# Altium footprint library Optoelectronic.PCBLIB: 42 footprints (part 1 of 3)
Each footprint in its own frame and in the unit in brackets; x right, y up, seen from the top. Pads: shape width x height; smd on the part's side, far side on the other; paste and mask are expansions set on the pad; w line width, h text height; cw(c..) or ccw(c..) is an arc to the next point about the centre after c.
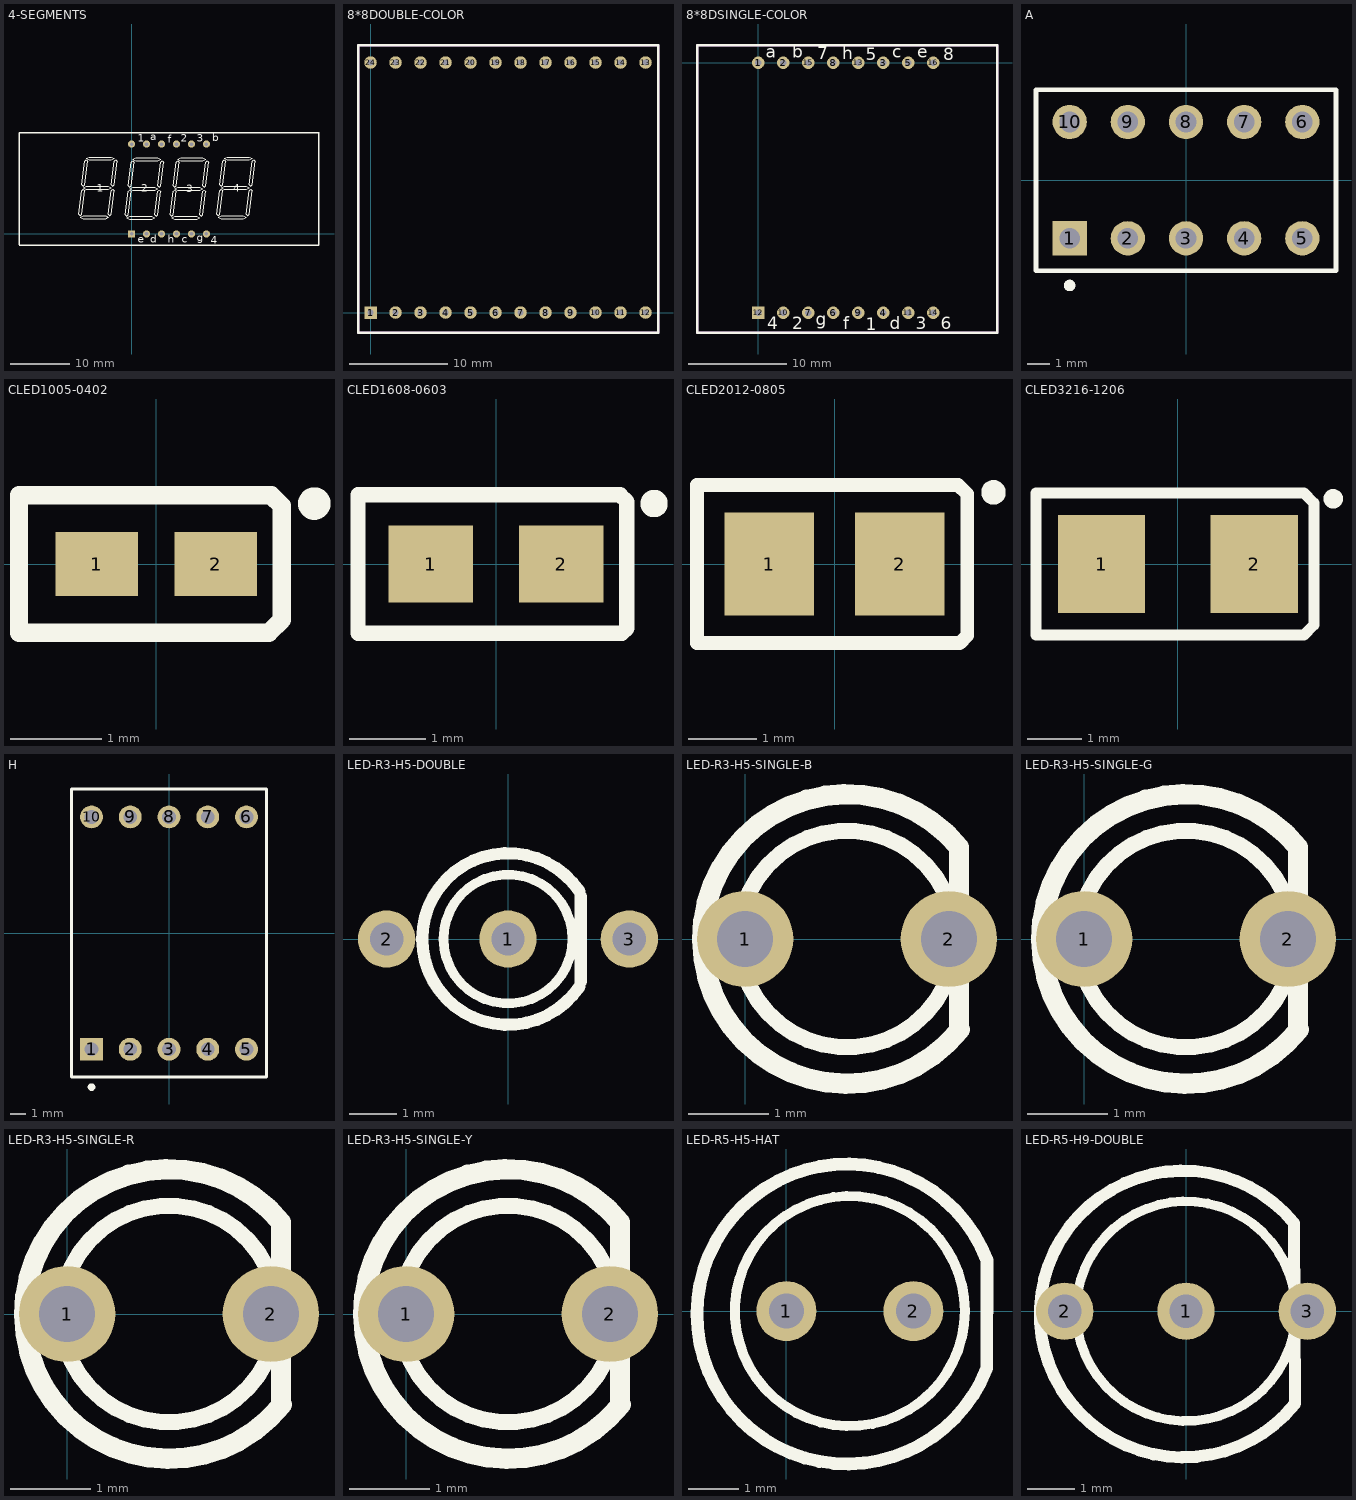
[diagram p0: the footprints below, top view; thin cyan lines are the x and y axes]

## 4-SEGMENTS [mm]
pads (12):
  rect 1.2x1.2 hole 0.6: 1(0,0.005)
  round 1.2 hole 0.6: 2(2.54,0.005) 3(5.08,0.005) 4(7.62,0.005) 5(10.16,0.005) 6(12.7,0.005) 7(12.7,15.245) 8(10.16,15.245) 9(7.62,15.245) 10(5.08,15.245) 11(2.54,15.245) 12(0,15.245)
Top Overlay:
  drawing of 175 lines, arcs and shapes, not listed
  text "e" at 1.016,-1.519 h1.27
  text "d" at 3.175,-1.519 h1.27
  text "h" at 6.096,-1.519 h1.27
  text "c" at 8.509,-1.519 h1.27
  text "g" at 11.049,-1.265 h1.27
  text "4" at 13.462,-1.646 h1.27
  text "1" at 1.016,15.626 h1.27
  text "a" at 3.175,15.88 h1.27
  text "f" at 6.096,15.499 h1.27
  text "2" at 8.382,15.626 h1.27
  text "3" at 11.049,15.626 h1.27
  text "b" at 13.716,15.753 h1.27
  text "1" at -5.868,7.143 h1.27
  text "2" at 1.625,7.117 h1.27
  text "3" at 9.296,7.067 h1.27
  text "4" at 17.221,7.143 h1.27
3D body: height 4.9, standoff 0.5, extent -19.197,-2.027 31.897,17.277
3D body: height 5, standoff 0.5, extent 15.709,12.551 20.463,13.049
3D body: height 5, standoff 0.5, extent 7.335,7.451 12.089,7.949
3D body: height 5, standoff 0.5, extent -0.786,2.479 3.969,2.977
3D body: height 5, standoff 0.5, extent -19.071,-1.9 31.75,17.101
3D body: height 5, standoff 0.5, extent 15.209,7.578 19.963,8.076
3D body: height 5, standoff 0.5, extent 7.084,7.948 8.086,12.425
3D body: height 5, standoff 0.5, extent 7.835,12.424 12.589,12.922
3D body: height 5, standoff 0.5, extent 12.088,7.948 13.09,12.425
3D body: height 5, standoff 0.5, extent -19.051,-1.85 31.77,17.151
3D body: height 5, standoff 0.5, extent 11.588,2.976 12.589,7.452
3D body: height 5, standoff 0.5, extent -0.536,7.948 0.466,12.425
3D body: height 5, standoff 0.5, extent -3.906,3.103 -2.905,7.579
3D body: height 5, standoff 0.5, extent 6.834,2.479 11.589,2.977
3D body: height 5, standoff 0.5, extent -1.036,2.976 -0.034,7.452
3D body: height 5, standoff 0.5, extent -0.285,7.451 4.469,7.949
3D body: height 5, standoff 0.5, extent -8.66,2.606 -3.905,3.104
3D body: height 5, standoff 0.5, extent -8.159,7.578 -3.405,8.076
3D body: height 5, standoff 0.5, extent 3.968,2.976 4.969,7.452
3D body: height 5, standoff 0.5, extent 4.468,7.948 5.47,12.425
3D body: height 5, standoff 0.5, extent -3.406,8.075 -2.404,12.552
3D body: height 5, standoff 0.5, extent -8.41,8.075 -7.408,12.552
3D body: height 5, standoff 0.5, extent -7.659,12.551 -2.905,13.049
3D body: height 5, standoff 0.5, extent 0.215,12.424 4.969,12.922
3D body: height 5, standoff 0.5, extent 19.462,3.103 20.463,7.579
3D body: height 5, standoff 0.5, extent -8.91,3.103 -7.908,7.579
3D body: height 5, standoff 0.5, extent 14.458,3.103 15.46,7.579
3D body: height 5, standoff 0.5, extent 14.708,2.606 19.463,3.104
3D body: height 5, standoff 0.5, extent 19.962,8.075 20.964,12.552
3D body: height 5, standoff 0.5, extent 6.584,2.976 7.586,7.452
3D body: height 5, standoff 0.5, extent 14.958,8.075 15.96,12.552

## 8*8DOUBLE-COLOR [mm]
pads (24):
  rect 1.27x1.27 hole 0.635: 1(0,0)
  round 1.27 hole 0.635: 2(2.54,0) 3(5.08,0) 4(7.62,0) 5(10.16,0) 6(12.7,0) 7(15.24,0) 8(17.78,0) 9(20.32,0) 10(22.86,0) 11(25.4,0) 12(27.94,0) 13(27.94,25.4) 14(25.4,25.4) 15(22.86,25.4) 16(20.32,25.4) 17(17.78,25.4) 18(15.24,25.4) 19(12.7,25.4) 20(10.16,25.4) 21(7.62,25.4) 22(5.08,25.4) 23(2.54,25.4) 24(0,25.4)
Top Overlay:
  lines w0.254: -1.27,-2.057 29.21,-2.057 29.21,27.153 -1.27,27.153 -1.27,-2.057
Mechanical 1:
  lines w0.254: -1.27,-2.057 -1.27,27.153 29.21,27.153 29.21,-2.057 -1.27,-2.057
3D body "8DotArray.STEP": height 1.5, standoff -5.8, extent -1.27,-2.159 29.21,27.051

## 8*8DSINGLE-COLOR [mm]
pads (16):
  round 1.27 hole 0.635: 1(0,0) 2(2.54,0) 3(12.7,0) 4(12.7,-25.4) 5(15.24,0) 6(7.62,-25.4) 7(5.08,-25.4) 8(7.62,0) 9(10.16,-25.4) 10(2.54,-25.4) 11(15.24,-25.4) 13(10.16,0) 14(17.78,-25.4) 15(5.08,0) 16(17.78,0)
  rect 1.27x1.27 hole 0.635: 12(0,-25.4)
Top Overlay:
  lines w0.254: -6.223,-27.432 24.257,-27.432 24.257,1.778 -6.223,1.778 -6.223,-27.432
  text "a" at 0.762,0.508 h1.27
  text "b" at 3.429,0.508 h1.27
  text "c" at 13.589,0.508 h1.27
  text "d" at 13.335,-27.051 h1.27
  text "e" at 16.129,0.508 h1.27
  text "f" at 8.636,-27.051 h1.27
  text "g" at 5.842,-26.67 h1.27
  text "h" at 8.509,0.381 h1.27
  text "8" at 18.796,0.254 h1.27
  text "7" at 5.969,0.381 h1.27
  text "6" at 18.542,-27.051 h1.27
  text "5" at 10.922,0.254 h1.27
  text "4" at 0.889,-27.051 h1.27
  text "3" at 16.002,-27.051 h1.27
  text "2" at 3.429,-27.051 h1.27
  text "1" at 10.922,-27.178 h1.27
Mechanical 1:
  lines w0.254: -6.223,-27.432 -6.223,1.778 24.257,1.778 24.257,-27.432 -6.223,-27.432
3D body "8DotArraySng.STEP": height 5.8, standoff -1.5, extent -6.35,-27.305 24.13,1.905

## A [mm] "LED, 7-Segment Display; 10 Pins; Row Space 5.08 mm; Pitch 2.54 mm"
height 6.34
pads (10):
  rect 1.5x1.5 hole 0.9: 1(-5.08,-2.54)
  round 1.5 hole 0.9: 2(-2.54,-2.54) 3(0,-2.54) 4(2.54,-2.54) 5(5.08,-2.54) 6(5.08,2.54) 7(2.54,2.54) 8(0,2.54) 9(-2.54,2.54) 10(-5.08,2.54)
Top Overlay:
  circle w0.25: c-5.08,-4.6 r0.125
  lines w0.2: -6.55,-3.95 6.55,-3.95 6.55,3.95 -6.55,3.95 -6.55,-3.95

## CLED1005-0402 [mm]
pads (2):
  rect 0.9x0.7 smd: 1(-0.65,0) 2(0.65,0)
Top Overlay:
  circle w0.254: c1.727,0.66 r0.051
  lines w0.2: -1.5,-0.75 1,-0.75 1.231,-0.75 1.372,-0.61 1.372,0.635 1.257,0.75 1,0.75 -1.5,0.75 -1.5,-0.75
3D body "LED0402.STEP": height 0.4, standoff 0, extent -0.5,-0.25 0.5,0.25

## CLED1608-0603 [mm]
pads (2):
  rect 1.1x1 smd: 1(-0.85,0) 2(0.85,0)
Top Overlay:
  circle w0.254: c2.057,0.787 r0.051
  lines w0.2: -1.8,-0.9 -1.8,0.9 1.3,0.9 1.615,0.9 1.702,0.813 1.702,-0.838 1.64,-0.9 1.3,-0.9 -1.8,-0.9
3D body "LED0603.STEP": height 0.6, standoff 0, extent -0.8,-0.4 0.8,0.4

## CLED2012-0805 [mm]
pads (2):
  rect 1.3x1.5 smd: 1(-0.95,0) 2(0.95,0)
Top Overlay:
  circle w0.254: c2.311,1.041 r0.051
  lines w0.2: -2,-1.15 -2,1.15 1.5,1.15 1.796,1.15 1.93,1.016 1.93,-1.041 1.822,-1.15 1.5,-1.15 -2,-1.15
3D body "LED0805.STEP": height 0.7, standoff 0, extent -1,-0.625 1,0.625

## CLED3216-1206 [mm]
pads (2):
  rect 1.6x1.8 smd: 1(-1.4,0) 2(1.4,0)
Top Overlay:
  circle w0.254: c2.845,1.194 r0.051
  lines w0.2: -2.6,-1.3 -2.6,1.3 2.1,1.3 2.307,1.3 2.489,1.118 2.489,-1.118 2.307,-1.3 2.1,-1.3 -2.6,-1.3
3D body "LED1206.STEP": height 0.9, standoff 0, extent -1.6,-0.8 1.6,0.8

## H [mm] "LED, 7-Segment Display; 10 Pins; Row Space 15.24 mm; Pitch 2.54 mm"
height 8.25
pads (10):
  rect 1.5x1.5 hole 0.9: 1(-5.08,-7.62)
  round 1.5 hole 0.9: 2(-2.54,-7.62) 3(0,-7.62) 4(2.54,-7.62) 5(5.08,-7.62) 6(5.08,7.62) 7(2.54,7.62) 8(0,7.62) 9(-2.54,7.62) 10(-5.08,7.62)
Top Overlay:
  circle w0.25: c-5.08,-10.1 r0.125
  lines w0.2: -6.4,-9.45 -6.4,9.45 6.4,9.45 6.4,-9.45 -6.4,-9.45

## LED-R3-H5-DOUBLE [mm]
height 5
pads (3):
  round 1.2 hole 0.7: 1(0,0) 2(-2.54,0) 3(2.54,0)
Top Overlay:
  circle w0.2: c0,0 r1.35
  lines w0.254: 1.494,-0.996 cw(c0,0) 1.494,0.996 ; 1.524,-0.889 1.524,0.889
3D body "LED-DBL.STEP": height 5.7, standoff -2.3, extent -2.79,-2.035 2.79,2.035

## LED-R3-H5-SINGLE-B [mm]
height 5
pads (2):
  round 1.2 hole 0.7: 1(0,0) 2(2.54,0)
Top Overlay:
  circle w0.2: c1.27,0 r1.35
  lines w0.254: 2.667,-1.115 2.667,1.143 ccw(c1.27,0) 2.679,-1.128
3D body "LED3_BLUE.step": height 5.2, standoff -2, extent -0.73,-1.998 2.79,1.998

## LED-R3-H5-SINGLE-G [mm]
height 5
pads (2):
  round 1.2 hole 0.7: 1(0,0) 2(2.54,0)
Top Overlay:
  circle w0.2: c1.27,0 r1.35
  lines w0.254: 2.667,-1.115 2.667,1.143 ccw(c1.27,0) 2.679,-1.128
3D body "LED3_GREEN.step": height 5.2, standoff -2, extent -0.73,-1.998 2.79,1.998

## LED-R3-H5-SINGLE-R [mm]
height 5
pads (2):
  round 1.2 hole 0.7: 1(0,0) 2(2.54,0)
Top Overlay:
  circle w0.2: c1.27,0 r1.35
  lines w0.254: 2.667,-1.115 2.667,1.143 ccw(c1.27,0) 2.679,-1.128
3D body "LED3_RED.step": height 5.2, standoff -2, extent -0.73,-1.998 2.79,1.998

## LED-R3-H5-SINGLE-Y [mm]
height 5
pads (2):
  round 1.2 hole 0.7: 1(0,0) 2(2.54,0)
Top Overlay:
  circle w0.2: c1.27,0 r1.35
  lines w0.254: 2.667,-1.115 2.667,1.143 ccw(c1.27,0) 2.679,-1.128
3D body "LED3_YEL.step": height 5.2, standoff -2, extent -0.73,-1.998 2.79,1.998

## LED-R5-H5-HAT [mm]
height 5
pads (2):
  round 1.2 hole 0.7: 1(0,0) 2(2.54,0)
Top Overlay:
  circle w0.2: c1.27,0 r2.3
  lines w0.254: 4.01,-1.143 cw(c1.212,-0.059) 4.013,1.016 4.01,-1.143
3D body: height 5, standoff 1.5, extent -1.029,-2.299 3.569,2.299
3D body: height 1.5, standoff 0.5, extent -1.789,-3.062 4.014,2.944

## LED-R5-H9-DOUBLE [mm]
height 9
pads (3):
  round 1.2 hole 0.7: 1(0,0) 2(-2.54,0) 3(2.54,0)
Top Overlay:
  circle w0.2: c0,0 r2.3
  lines w0.254: 2.264,1.841 ccw(c-0.058,-0.059) 2.285,-1.933 2.264,1.841
3D body "LED-DBL5.STEP": height 8.5, standoff -1.5, extent -2.866,-2.863 2.769,2.864